# Altium footprint library HV_LIB.PcbLib: 9 footprints
Each footprint in its own frame and in the unit in brackets; x right, y up, seen from the top. Pads: shape width x height; smd on the part's side, far side on the other; paste and mask are expansions set on the pad; w line width, h text height; cw(c..) or ccw(c..) is an arc to the next point about the centre after c.
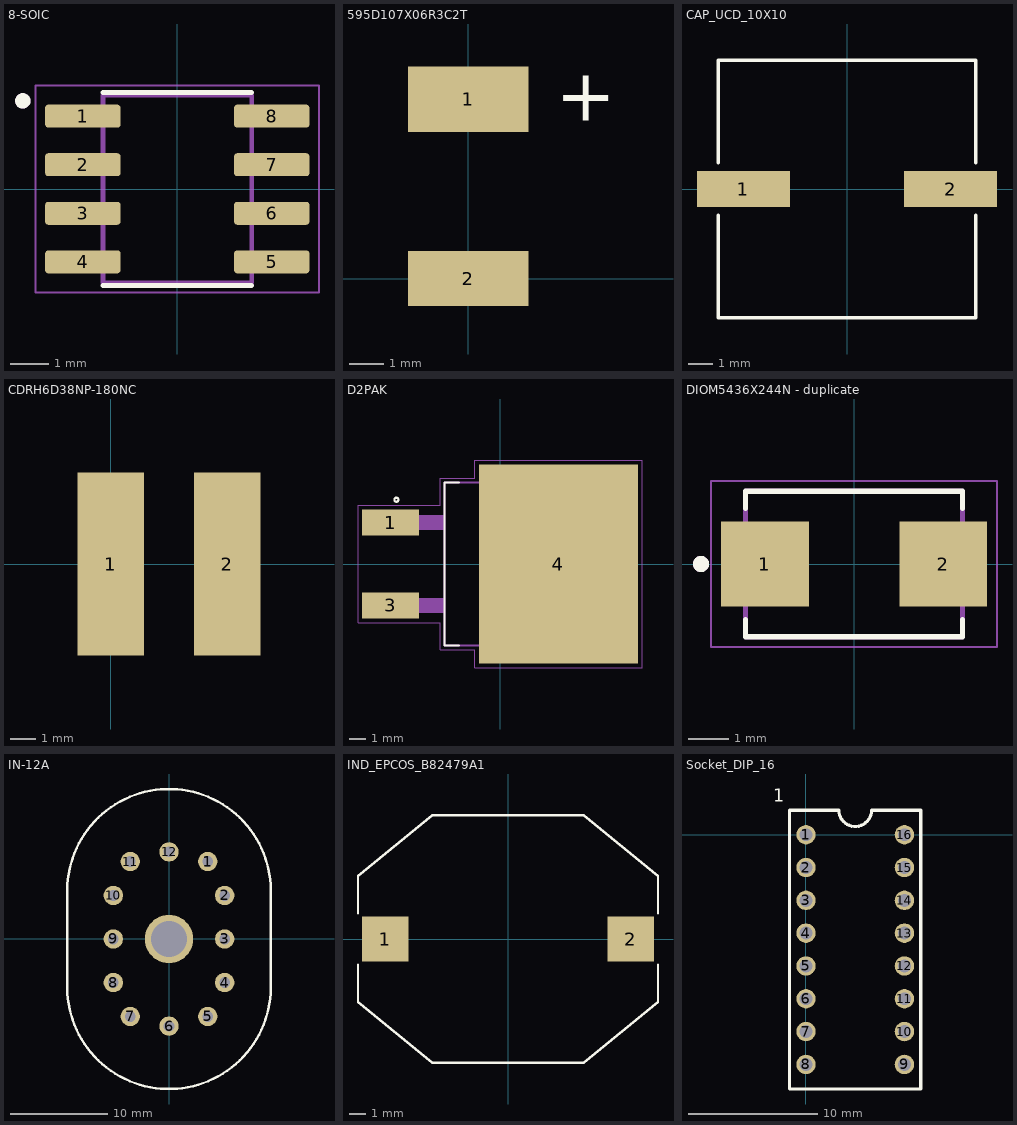
[diagram p0: the footprints below, top view; thin cyan lines are the x and y axes]

## 8-SOIC [mm]
pads (8):
  rrect25% 1.97x0.6 smd: 1(-2.47,1.905) 2(-2.47,0.635) 3(-2.47,-0.635) 4(-2.47,-1.905) 5(2.47,-1.905) 6(2.47,-0.635) 7(2.47,0.635) 8(2.47,1.905)
Top Overlay:
  circle w0.2: c-4.04,2.305 r0.1
  lines w0.127: -1.947,-2.525 1.947,-2.525 ; -1.947,2.525 1.947,2.525
Mechanical 13:
  circle w0.2: c-4.04,2.305 r0.1
  lines w0.127: -1.947,-2.452 -1.947,2.452 1.947,2.452 1.947,-2.452 -1.947,-2.452
Mechanical 15:
  lines w0.05: -3.705,-2.702 -3.705,2.702 3.705,2.702 3.705,-2.702 -3.705,-2.702

## 595D107X06R3C2T [mm]
pads (2):
  rect 3.5x1.9 smd: 1(0,5.2)
  rect 3.5x1.6 smd: 2(0,0)
Top Overlay:
  text "+" at 2.54,4.572 h1.52
3D body: height 3, standoff 0, extent -1.727,-0.787 1.727,6.121

## CAP_UCD_10X10 [mil]
pads (2):
  rect 150x59 smd paste+0 mask+0: 1(-167.5,0) 2(167.5,0)
Top Overlay:
  lines w6: -208,-42.6 -208,-208 208,-208 208,-42.6 ; -208,42.6 -208,208 208,208 208,42.6
3D body "CAP_UCD_10X10_NCH.step": height 415.12, standoff 0, extent -222.48,-202.98 222.48,203

## CDRH6D38NP-180NC [mm]
pads (2):
  rect 2.65x7.3 smd: 1(0,0) 2(4.65,0)
3D body: height 4, standoff 0, extent -1.295,-3.632 5.944,3.632

## D2PAK [mm]
pads (3):
  rect 3.5x1.6 smd: 1(-6.7,2.54) 3(-6.7,-2.54)
  rect 9.75x12.2 smd paste-7: 4(3.575,0)
Top Overlay:
  circle w0.127: c-6.35,3.937 r0.127
  lines w0.127: -2.515,-5 -3.4,-5 -3.4,5 -2.515,5
Top Paste:
  region: 1.31,2.362 -0.07,2.362 -0.07,3.83 1.31,3.83
  region: 3.28,2.362 1.901,2.362 1.901,3.83 3.28,3.83
  region: 1.31,-3.834 -0.07,-3.834 -0.07,-2.36 1.31,-2.36
  region: 3.28,-3.835 1.902,-3.835 1.902,-2.36 3.28,-2.36
  region: 3.28,-1.766 1.902,-1.766 1.902,-0.295 3.28,-0.295
  region: 3.28,0.295 1.902,0.295 1.902,1.765 3.28,1.765
  region: 1.31,0.296 -0.07,0.296 -0.07,1.765 1.31,1.765
  region: 1.31,-1.767 -0.07,-1.767 -0.07,-0.295 1.31,-0.295
  region: 7.22,-3.837 5.85,-3.837 5.85,-2.36 7.22,-2.36
  region: 5.25,-3.836 3.876,-3.836 3.876,-2.36 5.25,-2.36
  region: 7.22,2.362 5.844,2.362 5.844,3.83 7.22,3.83
  region: 5.25,2.362 3.874,2.362 3.874,3.83 5.25,3.83
  region: 5.25,0.295 3.876,0.295 3.876,1.765 5.25,1.765
  region: 5.25,-1.767 3.875,-1.767 3.875,-0.295 5.25,-0.295
  region: 7.22,-1.766 5.844,-1.766 5.844,-0.295 7.22,-0.295
  region: 7.22,0.295 5.85,0.295 5.85,1.765 7.22,1.765
Mechanical 13:
  region: -3.4,-2.996 -8.216,-2.996 -8.216,-2.09 -3.4,-2.09
  region: -3.4,2.094 -8.215,2.094 -8.215,2.99 -3.4,2.99
  lines w0.127: -3.4,-5 -3.4,5 7.4,5 7.4,-5 -3.4,-5
Mechanical 15:
  lines w0.05: -8.7,-3.6 -8.7,3.6 -3.65,3.6 -3.65,5.25 -1.55,5.25 -1.55,6.35 8.7,6.35 8.7,-6.35 -1.55,-6.35 -1.55,-5.25 -3.65,-5.25 -3.65,-3.6 -8.7,-3.6

## DIOM5436X244N - duplicate [mm]
pads (2):
  rect 2.18x2.12 smd: 1(-2.215,0) 2(2.215,0)
Top Overlay:
  circle w0.2: c-3.805,0 r0.1
  lines w0.127: -2.7,-1.38 -2.7,-1.81 2.7,-1.81 2.7,-1.38 ; -2.7,1.38 -2.7,1.81 2.7,1.81 2.7,1.38
Mechanical 13:
  circle w0.2: c-3.805,0 r0.1
  lines w0.127: -2.7,-1.81 2.7,-1.81 2.7,1.81 -2.7,1.81 -2.7,-1.81
Mechanical 15:
  lines w0.05: -3.555,-2.06 3.555,-2.06 3.555,2.06 -3.555,2.06 -3.555,-2.06

## IN-12A [mm]
pads (13):
  round 2 hole 1.1: 1(4,8) 2(5.75,4.5) 3(5.75,0) 4(5.75,-4.5) 5(4,-8) 6(0,-9) 7(-4,-8) 8(-5.75,-4.5) 9(-5.75,0) 10(-5.75,4.5) 11(-4,8) 12(0,9)
  round 5 hole 3.7: ""(0,0)
Top Overlay:
  lines w0.254: -10.5,-4.5 ccw(c0,-4.983) 10.5,-4.5 10.5,4.5 ccw(c0,4.983) -10.5,4.5 -10.5,-4.5
3D body: height 28, standoff 0, extent -10,-4.756 10,15.237
3D body: height 28, standoff 0, extent -9.982,-4.674 9.982,4.47
3D body: height 28, standoff 0, extent -10,-15.236 10,4.757

## IND_EPCOS_B82479A1 [mil]
pads (2):
  rect 115x110 smd paste+0 mask+0: 1(-302.5,0) 2(302.5,0)
Top Overlay:
  lines w6: -370,-63.46 -370,-155 -187.5,-305 187.5,-305 370,-155 370,-63.46 ; -370,63.46 -370,155 -187.5,305 187.5,305 370,155 370,63.46
3D body "IND_EPCOS_B82479A1_EPC.step": height 292.01, standoff 0, extent -377,-300 377.01,300

## Socket_DIP_16 [mm]
pads (16):
  round 1.5 hole 1: 1(0,0) 2(0,-2.54) 3(0,-5.08) 4(0,-7.62) 5(0,-10.16) 6(0,-12.7) 7(0,-15.24) 8(0,-17.78) 9(7.62,-17.78) 10(7.62,-15.24) 11(7.62,-12.7) 12(7.62,-10.16) 13(7.62,-7.62) 14(7.62,-5.08) 15(7.62,-2.54) 16(7.62,0)
Top Overlay:
  lines w0.254: -1.27,-19.685 -1.27,1.905 2.54,1.905 ccw(c3.81,1.905) 5.08,1.905 8.89,1.905 8.89,-19.685 -1.27,-19.685
  text "1" at -2.54,2.54 h1